# EAGLE library part STM32F207ZGT6 (library STM32F207ZGT6)
High-performance ARM Cortex-M3 MCU with 1 Mbyte Flash, 120 MHz CPU, ART Accelerator, Ethernet Buy Part <https://snapeda.com/parts/STM32F207ZGT6/STMicroelectronics/view-part/?ref=eda>
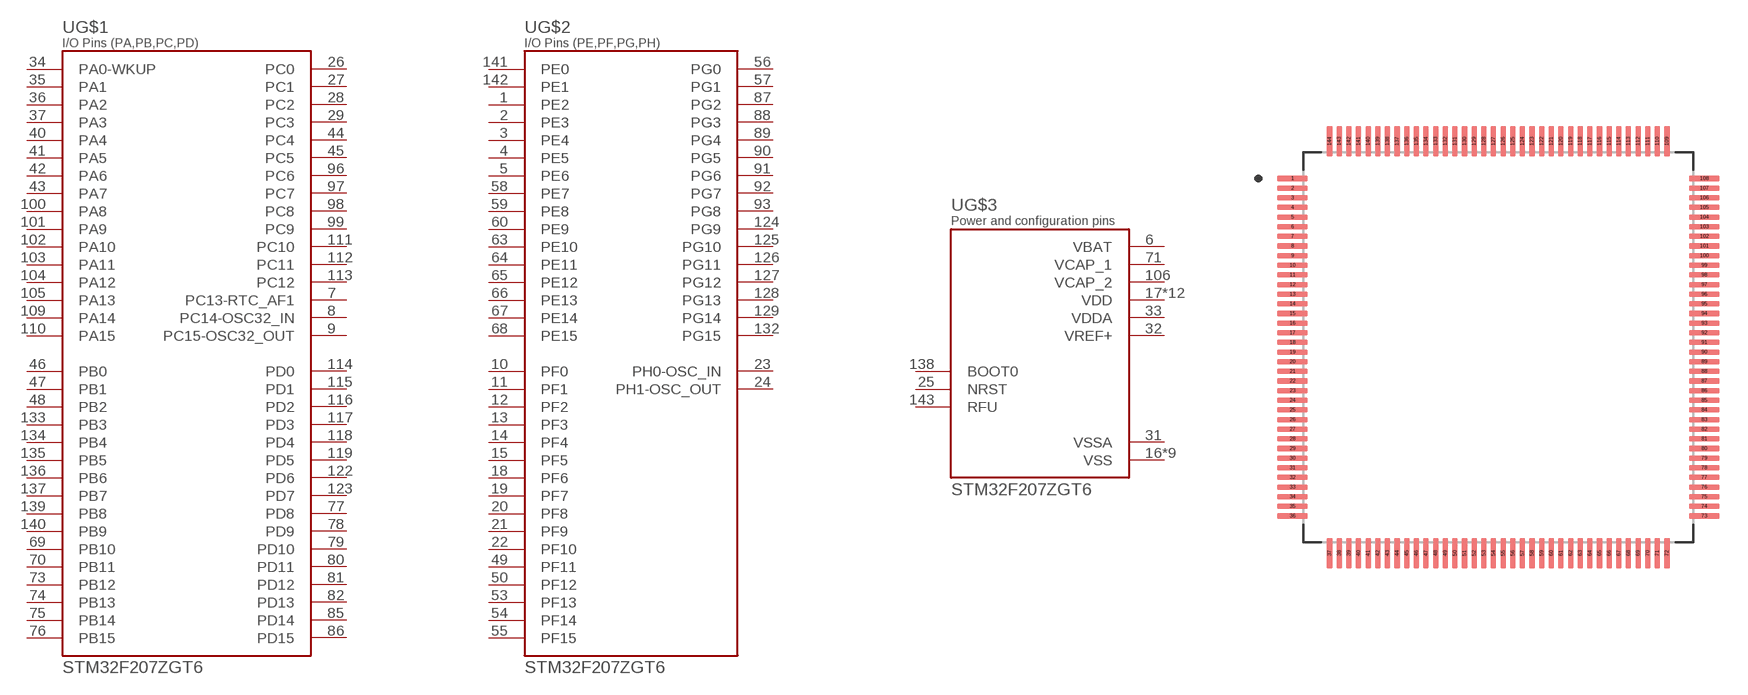
[diagram p0: symbol with the pads of QFP50P2200X2200X160-144N; footprint QFP50P2200X2200X160-144N]

Designator prefix U; gates G$1=STM32F207ZGT6_SECTION1 G$2=STM32F207ZGT6_SECTION2 G$3=STM32F207ZGT6_SECTION3

## STM32F207ZGT6 (Availability: Good; Description: ARM® Cortex®-M3 STM32F2 Microcontroller IC 32-Bit 120MHz 1MB (1M x 8) FLASH 144-LQFP (20x20); DigiKey-Purchase-URL: https://snapeda.com/shop?store=DigiKey&id=459075; MF: STMicroelectronics; MP: STM32F207ZGT6; Mouser-Purchase-URL: https://snapeda.com/shop?store=Mouser&id=459075; Package: LQFP-144 STMicroelectronics; Price: None)  [QFP50P2200X2200X160-144N]
1  G$2:PE2
2  G$2:PE3
3  G$2:PE4
4  G$2:PE5
5  G$2:PE6
6  G$3:VBAT  pwr
7  G$1:PC13-RTC_AF1
8  G$1:PC14-OSC32_IN
9  G$1:PC15-OSC32_OUT
10  G$2:PF0
11  G$2:PF1
12  G$2:PF2
13  G$2:PF3
14  G$2:PF4
15  G$2:PF5
16  G$3:VSS  pwr
17  G$3:VDD  pwr
18  G$2:PF6
19  G$2:PF7
20  G$2:PF8
21  G$2:PF9
22  G$2:PF10
23  G$2:PH0-OSC_IN
24  G$2:PH1-OSC_OUT
25  G$3:NRST
26  G$1:PC0
27  G$1:PC1
28  G$1:PC2
29  G$1:PC3
30  G$3:VDD  pwr
31  G$3:VSSA  pwr
32  G$3:VREF+  pwr
33  G$3:VDDA  pwr
34  G$1:PA0-WKUP
35  G$1:PA1
36  G$1:PA2
37  G$1:PA3
38  G$3:VSS  pwr
39  G$3:VDD  pwr
40  G$1:PA4
41  G$1:PA5
42  G$1:PA6
43  G$1:PA7
44  G$1:PC4
45  G$1:PC5
46  G$1:PB0
47  G$1:PB1
48  G$1:PB2
49  G$2:PF11
50  G$2:PF12
51  G$3:VSS  pwr
52  G$3:VDD  pwr
53  G$2:PF13
54  G$2:PF14
55  G$2:PF15
56  G$2:PG0
57  G$2:PG1
58  G$2:PE7
59  G$2:PE8
60  G$2:PE9
61  G$3:VSS  pwr
62  G$3:VDD  pwr
63  G$2:PE10
64  G$2:PE11
65  G$2:PE12
66  G$2:PE13
67  G$2:PE14
68  G$2:PE15
69  G$1:PB10
70  G$1:PB11
71  G$3:VCAP_1  pwr
72  G$3:VDD  pwr
73  G$1:PB12
74  G$1:PB13
75  G$1:PB14
76  G$1:PB15
77  G$1:PD8
78  G$1:PD9
79  G$1:PD10
80  G$1:PD11
81  G$1:PD12
82  G$1:PD13
83  G$3:VSS  pwr
84  G$3:VDD  pwr
85  G$1:PD14
86  G$1:PD15
87  G$2:PG2
88  G$2:PG3
89  G$2:PG4
90  G$2:PG5
91  G$2:PG6
92  G$2:PG7
93  G$2:PG8
94  G$3:VSS  pwr
95  G$3:VDD  pwr
96  G$1:PC6
97  G$1:PC7
98  G$1:PC8
99  G$1:PC9
100  G$1:PA8
101  G$1:PA9
102  G$1:PA10
103  G$1:PA11
104  G$1:PA12
105  G$1:PA13
106  G$3:VCAP_2  pwr
107  G$3:VSS  pwr
108  G$3:VDD  pwr
109  G$1:PA14
110  G$1:PA15
111  G$1:PC10
112  G$1:PC11
113  G$1:PC12
114  G$1:PD0
115  G$1:PD1
116  G$1:PD2
117  G$1:PD3
118  G$1:PD4
119  G$1:PD5
120  G$3:VSS  pwr
121  G$3:VDD  pwr
122  G$1:PD6
123  G$1:PD7
124  G$2:PG9
125  G$2:PG10
126  G$2:PG11
127  G$2:PG12
128  G$2:PG13
129  G$2:PG14
130  G$3:VSS  pwr
131  G$3:VDD  pwr
132  G$2:PG15
133  G$1:PB3
134  G$1:PB4
135  G$1:PB5
136  G$1:PB6
137  G$1:PB7
138  G$3:BOOT0  in
139  G$1:PB8
140  G$1:PB9
141  G$2:PE0
142  G$2:PE1
143  G$3:RFU
144  G$3:VDD  pwr

## Footprint QFP50P2200X2200X160-144N (pad centres in mm)
smd 1.56 x 0.28: 1 -10.68,8.75; 2 -10.68,8.25; 3 -10.68,7.75; 4 -10.68,7.25; 5 -10.68,6.75; 6 -10.68,6.25; 7 -10.68,5.75; 8 -10.68,5.25; 9 -10.68,4.75; 10 -10.68,4.25; 11 -10.68,3.75; 12 -10.68,3.25; 13 -10.68,2.75; 14 -10.68,2.25; 15 -10.68,1.75; 16 -10.68,1.25; 17 -10.68,0.75; 18 -10.68,0.25; 19 -10.68,-0.25; 20 -10.68,-0.75; 21 -10.68,-1.25; 22 -10.68,-1.75; 23 -10.68,-2.25; 24 -10.68,-2.75; 25 -10.68,-3.25; 26 -10.68,-3.75; 27 -10.68,-4.25; 28 -10.68,-4.75; 29 -10.68,-5.25; 30 -10.68,-5.75; 31 -10.68,-6.25; 32 -10.68,-6.75; 33 -10.68,-7.25; 34 -10.68,-7.75; 35 -10.68,-8.25; 36 -10.68,-8.75; 73 10.68,-8.75; 74 10.68,-8.25; 75 10.68,-7.75; 76 10.68,-7.25; 77 10.68,-6.75; 78 10.68,-6.25; 79 10.68,-5.75; 80 10.68,-5.25; 81 10.68,-4.75; 82 10.68,-4.25; 83 10.68,-3.75; 84 10.68,-3.25; 85 10.68,-2.75; 86 10.68,-2.25; 87 10.68,-1.75; 88 10.68,-1.25; 89 10.68,-0.75; 90 10.68,-0.25; 91 10.68,0.25; 92 10.68,0.75; 93 10.68,1.25; 94 10.68,1.75; 95 10.68,2.25; 96 10.68,2.75; 97 10.68,3.25; 98 10.68,3.75; 99 10.68,4.25; 100 10.68,4.75; 101 10.68,5.25; 102 10.68,5.75; 103 10.68,6.25; 104 10.68,6.75; 105 10.68,7.25; 106 10.68,7.75; 107 10.68,8.25; 108 10.68,8.75
smd 0.28 x 1.56: 37 -8.75,-10.68; 38 -8.25,-10.68; 39 -7.75,-10.68; 40 -7.25,-10.68; 41 -6.75,-10.68; 42 -6.25,-10.68; 43 -5.75,-10.68; 44 -5.25,-10.68; 45 -4.75,-10.68; 46 -4.25,-10.68; 47 -3.75,-10.68; 48 -3.25,-10.68; 49 -2.75,-10.68; 50 -2.25,-10.68; 51 -1.75,-10.68; 52 -1.25,-10.68; 53 -0.75,-10.68; 54 -0.25,-10.68; 55 0.25,-10.68; 56 0.75,-10.68; 57 1.25,-10.68; 58 1.75,-10.68; 59 2.25,-10.68; 60 2.75,-10.68; 61 3.25,-10.68; 62 3.75,-10.68; 63 4.25,-10.68; 64 4.75,-10.68; 65 5.25,-10.68; 66 5.75,-10.68; 67 6.25,-10.68; 68 6.75,-10.68; 69 7.25,-10.68; 70 7.75,-10.68; 71 8.25,-10.68; 72 8.75,-10.68; 109 8.75,10.68; 110 8.25,10.68; 111 7.75,10.68; 112 7.25,10.68; 113 6.75,10.68; 114 6.25,10.68; 115 5.75,10.68; 116 5.25,10.68; 117 4.75,10.68; 118 4.25,10.68; 119 3.75,10.68; 120 3.25,10.68; 121 2.75,10.68; 122 2.25,10.68; 123 1.75,10.68; 124 1.25,10.68; 125 0.75,10.68; 126 0.25,10.68; 127 -0.25,10.68; 128 -0.75,10.68; 129 -1.25,10.68; 130 -1.75,10.68; 131 -2.25,10.68; 132 -2.75,10.68; 133 -3.25,10.68; 134 -3.75,10.68; 135 -4.25,10.68; 136 -4.75,10.68; 137 -5.25,10.68; 138 -5.75,10.68; 139 -6.25,10.68; 140 -6.75,10.68; 141 -7.25,10.68; 142 -7.75,10.68; 143 -8.25,10.68; 144 -8.75,10.68